# EAGLE library part 1903815-1 (library JetsonProj)
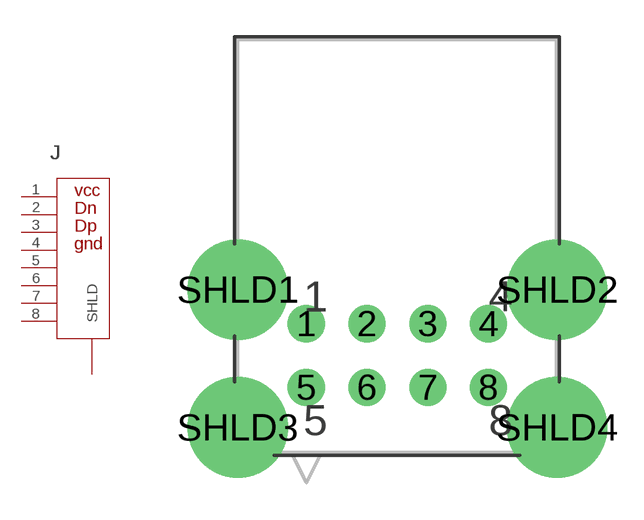
[diagram p5: symbol with the pads of CONN_1903815-1; footprint CONN_1903815-1]

Designator prefix J

## 1903815-1 (MANUFACTURER_PART_NUMBER: 19038151; VENDOR: Tyco Electronics)  [CONN_1903815-1]
1  1  pas
2  2  pas
3  3  pas
4  4  pas
5  5  pas
6  6  pas
7  7  pas
8  8  pas
SHLD1  SHLD
SHLD2  SHLD
SHLD3  SHLD
SHLD4  SHLD

## Footprint CONN_1903815-1 (pad centres in mm)
drill 1.016 pad 1.524: 1 -3.683,-5.563; 2 -1.194,-5.563; 3 1.321,-5.563; 4 3.81,-5.563; 5 -3.683,-8.179; 6 -1.194,-8.179; 7 1.321,-8.179; 8 3.81,-8.179
drill 3.124 pad 3.81: SHLD1 -6.502,-4.166; SHLD2 6.629,-4.166; SHLD3 -6.502,-9.83; SHLD4 6.629,-9.83